# Altium schematic symbol library a_Valider_HD.SchLib: 3 symbols
Pins are listed as number, name and electrical type; pins without a type are passive.

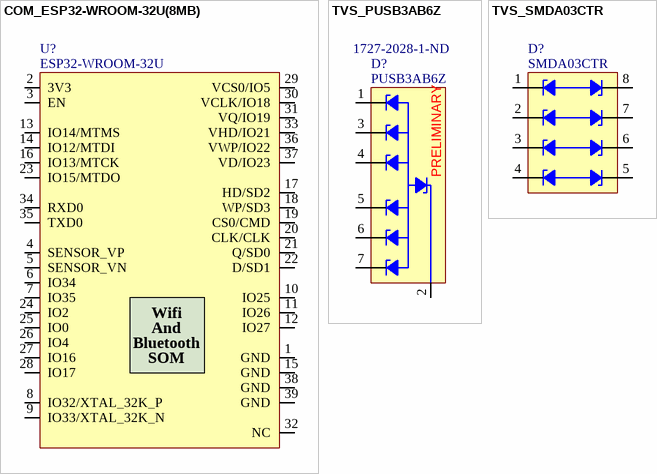
[diagram p0: symbols COM_ESP32-WROOM-32U(8MB) to TVS_SMDA03CTR]

## COM_ESP32-WROOM-32U(8MB)
designator U?, comment ESP32-WROOM-32U
Bluetooth, WiFi 802.11b/g/n, Bluetooth v4.2  2.4GHz ~ 2.5GHz U.FL Surface Mount; Manufacturer #1: Espressif Systems; Part Number #1: 1904-1027-1-ND; Voltage Rating: -0.3 to 3.6V; Current Rating: 1100mA; Power Max: 3.96W; GRAMS Lib Spec: 2.7; Note: Antenna not included; Magnetic Material: Unknown; Polarized: Yes; Value: *; Tolerance: *; HelpURL: https://www.espressif.com/sites/default/files/documentation/esp32-wroom-32d_esp32-wroom-32u_datasheet_en.pdf; VerifiedBy: Philippe Arsenault - 15/12/2020; Temperature: -40~150C; Package: 38-SMD MODULE; Manufacturer #2: *; Assembly Type: SMD; Part Number #2: *; CreatedBy/Date: Hubert Dube -  12/12/20; Supplier 1: Digi-Key; Supplier Part Number 1: 1904-1027-1-ND
pins: 1 GND, 2 3V3, 3 EN, 4 SENSOR_VP, 5 SENSOR_VN, 6 IO34, 7 IO35, 8 IO32/XTAL_32K_P, 9 IO33/XTAL_32K_N, 10 IO25, 11 IO26, 12 IO27, 13 IO14/MTMS, 14 IO12/MTDI, 15 GND, 16 IO13/MTCK, 17 HD/SD2, 18 WP/SD3, 19 CS0/CMD, 20 CLK/CLK, 21 Q/SD0, 22 D/SD1, 23 IO15/MTDO, 24 IO2, 25 IO0, 26 IO4, 27 IO16, 28 IO17, 29 VCS0/IO5, 30 VCLK/IO18, 31 VQ/IO19, 32 NC, 33 VHD/IO21, 34 RXD0, 35 TXD0, 36 VWP/IO22, 37 VD/IO23, 38 GND, 39 GND
text: Wifi; And; Bluetooth; SOM

## TVS_PUSB3AB6Z
designator D?, comment PUSB3AB6Z  Supplier Part Number 1: 1727-2028-1-ND
TVS - TVS DIODE 3.3V 6V - 7-XSON; Manufacturer #1: Nexperia USA Inc.; Current Rating: 5A (8/20µs); Value: 6 bidirectionnal channels; Voltage rating: 6V (Breakdown); Polarized: YES; Magnetic Material: UNKNOWN; GRAMS Lib Spec: 2.8; Manufacturer #2: *; Power Max: *; Part Number #1: PUSB3AB6Z; Part Number #2: *; HelpURL: https://assets.nexperia.com/documents/data-sheet/PUSB3AB6.pdf; Note: *; Assembly Type: SMD; Temperature: -40°C ~ 85°C; Package: 10-USON; CreatedBy/Date: Hubert Dube - 22/07/20; Tolerance: *; Cryo: UNKNOWN; Supplier 1: Digi-Key
pins: 1, 2, 3, 4, 5, 6, 7
text: PRELIMINARY

## TVS_SMDA03CTR
designator D?, comment SMDA03CTR
TVS - TVS DIODE 3.3V 7V - 8-SOIC; Manufacturer #1: SMC Diode Solutions; Power Max: 300W (Peak); Value: 4 bidirectionnal channels; Voltage rating: 3V3; Polarized: YES; Magnetic Material: UNKNOWN; GRAMS Lib Spec: 2.8; Current Rating: *; Manufacturer #2: *; Part Number #1: SMDA03CTR; Part Number #2: *; HelpURL: http://www.smc-diodes.com/propdf/SMDA03C%20THRU%20SMDA24C%20N0297%20REV.B.pdf; Note: *; Assembly Type: SMD; Temperature: -55°C ~ 125°C; Package: 8-SOIC; CreatedBy/Date: Hubert Dube - 3/10/20; Tolerance: *; VerifiedBy: Louis-Daniel Gaulin; Cryo: UNKNOWN; Supplier 1: Digi-Key; Supplier Part Number 1: 1655-1699-1-ND
footprint TVS_SMDA03CTR (TVS - TVS DIODE 3.3V 7V - 8-SOIC)
pins: 1, 2, 3, 4, 5, 6, 7, 8